# Altium schematic symbol library botao.SchLib: 1 symbol
Pins are listed as number, name and electrical type; pins without a type are passive.

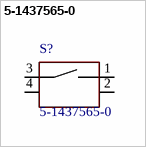
[diagram p0: symbol 5-1437565-0]

## 5-1437565-0
designator S?
Switch Tactile OFF _ON_ Round Button Gull Wing 0.05A 12VDC 1.57N SMD T/R; MF: TE Connectivity; Price: None; EU_RoHS_Compliance: Compliant; Availability: Unavailable; Link: http://www.te.com/usa-en/product-5-1437565-0.html; SnapEDA_Link: https://www.snapeda.com/parts/5-1437565-0/TE%20Connectivity/view-part/?ref=snap; MP: 5-1437565-0; Package: None; Value: *
footprint SW_5-1437565-0
pins: 1 2, 2, 3 1, 4 1